# EAGLE library part A153-1191.25M1 (library saw-filters-wideband)
СКТН.433561.153-01 Параметр Ед. изм. Нижняя частота Тип. значение Верхняя частота Центральная частота МГц - 1191.25 - Минимальное вносимое затухание дБ - Не более 2.2 - Частота среза по уровню -2 дБ МГц Не более 1161 - Не менее 1222.6 Частота среза по уровню -28 дБ МГц Не менее 1138 - Не более 1244 Неравномерность АЧХ дБ - Не более 2 - Групповое время задержки нс - Не более 15 - Гарантированное затухание дБ - 35 - Температурный диапазон °C -55 22 +85 Материал подложки - - Ниобат лития 49 - Разработан: ООО "АЭК Дизайн" Серийное производство: ООО "АЭК"
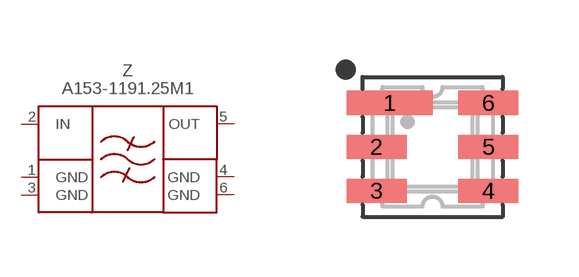
[diagram p2: symbol with the pads of DCC6; footprint DCC6]

Designator prefix Z

## A153-1191.25M1  [DCC6]
1  GND  pwr
2  IN  in
3  GND  pwr
4  GND  pwr
5  OUT  out
6  GND  pwr

## Footprint DCC6 (pad centres in mm)
smd 2.15 x 0.6: 1 -1.075,1.1
smd 1.5 x 0.6: 2 -1.4,0; 3 -1.4,-1.1; 4 1.4,-1.1; 5 1.4,0; 6 1.4,1.1